# EAGLE library part PIC32MX534F064L-X_PT (library MINI-32)
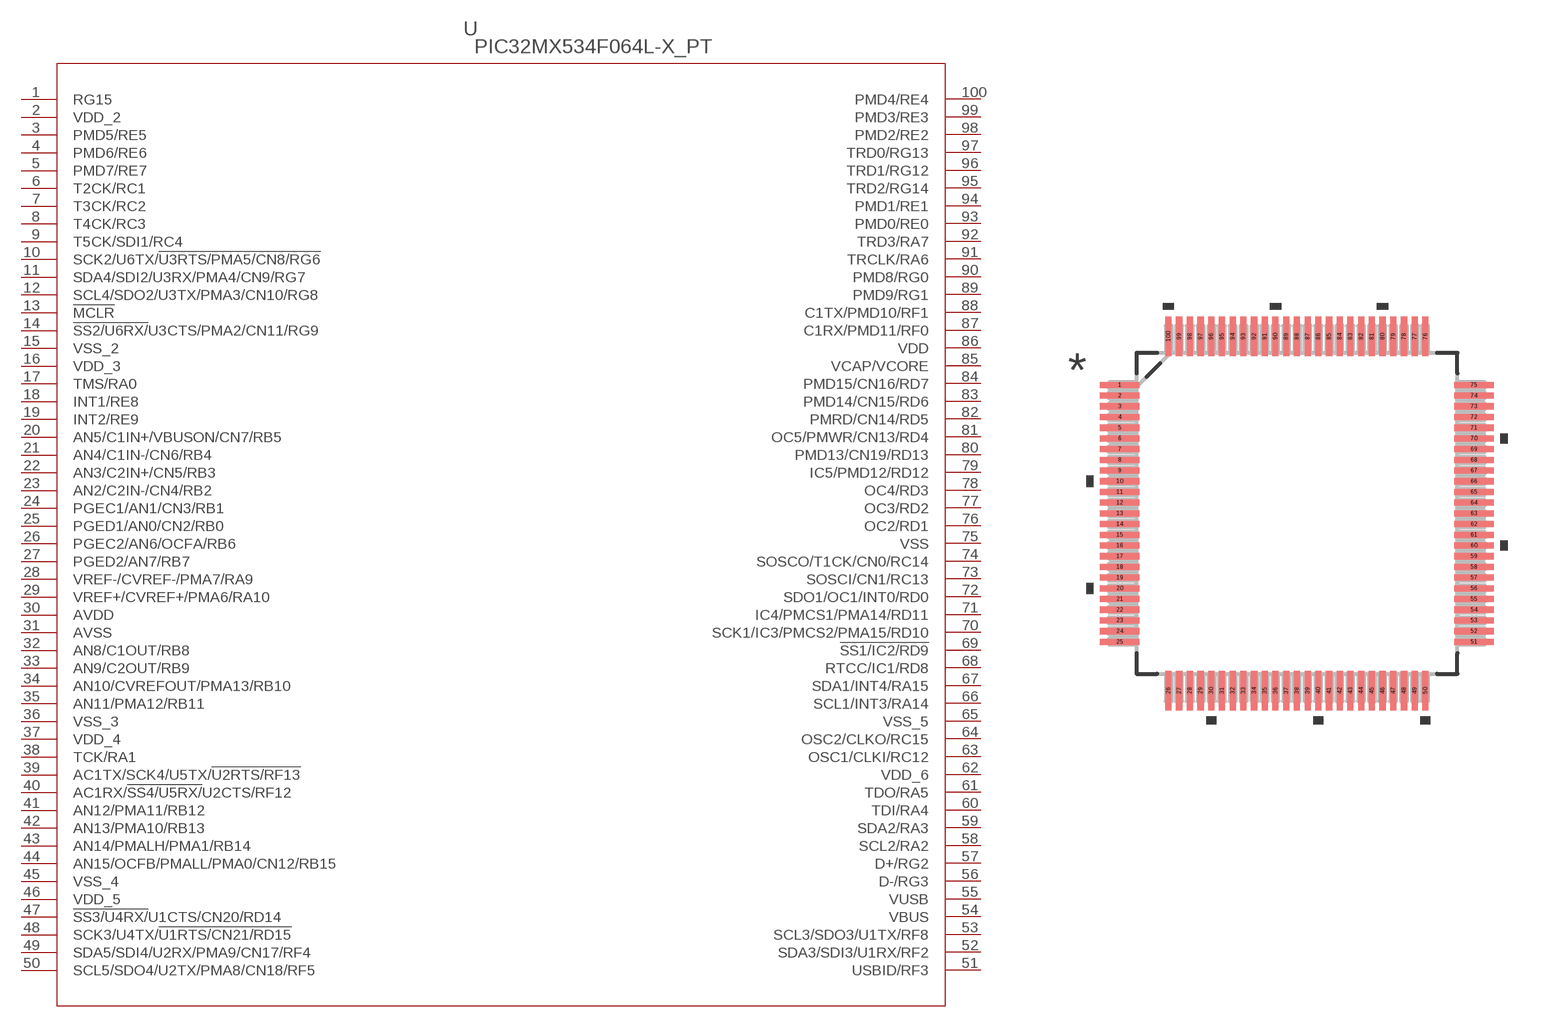
[diagram p1: symbol with the pads of TQFP100_12X12MC; footprint TQFP100_12X12MC]

Designator prefix -

## PIC32MX534F064L-X_PT  [TQFP100_12X12MC]
1  RG15
2  VDD_2  pwr
3  PMD5/RE5
4  PMD6/RE6
5  PMD7/RE7
6  T2CK/RC1
7  T3CK/RC2
8  T4CK/RC3
9  T5CK/SDI1/RC4
10  SCK2/U6TX/!U3RTS/PMA5/CN8/RG6
11  SDA4/SDI2/U3RX/PMA4/CN9/RG7
12  SCL4/SDO2/U3TX/PMA3/CN10/RG8
13  !MCLR  in
14  !SS2/U6RX/!U3CTS/PMA2/CN11/RG9
15  VSS_2  pwr
16  VDD_3  pwr
17  TMS/RA0
18  INT1/RE8
19  INT2/RE9
20  AN5/C1IN+/VBUSON/CN7/RB5
21  AN4/C1IN-/CN6/RB4
22  AN3/C2IN+/CN5/RB3
23  AN2/C2IN-/CN4/RB2
24  PGEC1/AN1/CN3/RB1
25  PGED1/AN0/CN2/RB0
26  PGEC2/AN6/OCFA/RB6
27  PGED2/AN7/RB7
28  VREF-/CVREF-/PMA7/RA9
29  VREF+/CVREF+/PMA6/RA10
30  AVDD  pwr
31  AVSS  pwr
32  AN8/C1OUT/RB8
33  AN9/C2OUT/RB9
34  AN10/CVREFOUT/PMA13/RB10
35  AN11/PMA12/RB11
36  VSS_3  pwr
37  VDD_4  pwr
38  TCK/RA1
39  AC1TX/SCK4/U5TX/!U2RTS/RF13
40  AC1RX/!SS4/U5RX/!U2CTS/RF12
41  AN12/PMA11/RB12
42  AN13/PMA10/RB13
43  AN14/PMALH/PMA1/RB14
44  AN15/OCFB/PMALL/PMA0/CN12/RB15
45  VSS_4  pwr
46  VDD_5  pwr
47  !SS3/U4RX/!U1CTS/CN20/RD14
48  SCK3/U4TX/!U1RTS/CN21/RD15
49  SDA5/SDI4/U2RX/PMA9/CN17/RF4
50  SCL5/SDO4/U2TX/PMA8/CN18/RF5
51  USBID/RF3
52  SDA3/SDI3/U1RX/RF2
53  SCL3/SDO3/U1TX/RF8
54  VBUS  pwr
55  VUSB  pwr
56  D-/RG3
57  D+/RG2
58  SCL2/RA2
59  SDA2/RA3
60  TDI/RA4
61  TDO/RA5
62  VDD_6  pwr
63  OSC1/CLKI/RC12
64  OSC2/CLKO/RC15
65  VSS_5  pwr
66  SCL1/INT3/RA14
67  SDA1/INT4/RA15
68  RTCC/IC1/RD8
69  !SS1/IC2/RD9
70  SCK1/IC3/PMCS2/PMA15/RD10
71  IC4/PMCS1/PMA14/RD11
72  SDO1/OC1/INT0/RD0
73  SOSCI/CN1/RC13
74  SOSCO/T1CK/CN0/RC14
75  VSS  pwr
76  OC2/RD1
77  OC3/RD2
78  OC4/RD3
79  IC5/PMD12/RD12
80  PMD13/CN19/RD13
81  OC5/PMWR/CN13/RD4
82  PMRD/CN14/RD5
83  PMD14/CN15/RD6
84  PMD15/CN16/RD7
85  VCAP/VCORE  pwr
86  VDD  pwr
87  C1RX/PMD11/RF0
88  C1TX/PMD10/RF1
89  PMD9/RG1
90  PMD8/RG0
91  TRCLK/RA6
92  TRD3/RA7
93  PMD0/RE0
94  PMD1/RE1
95  TRD2/RG14
96  TRD1/RG12
97  TRD0/RG13
98  PMD2/RE2
99  PMD3/RE3
100  PMD4/RE4

## Footprint TQFP100_12X12MC (pad centres in mm)
smd 1.473 x 0.229: 1 -6.617,4.8; 2 -6.617,4.4; 3 -6.617,4; 4 -6.617,3.6; 5 -6.617,3.2; 6 -6.617,2.8; 7 -6.617,2.4; 8 -6.617,2; 9 -6.617,1.6; 10 -6.617,1.2; 11 -6.617,0.8; 12 -6.617,0.4; 13 -6.617,0; 14 -6.617,-0.4; 15 -6.617,-0.8; 16 -6.617,-1.2; 17 -6.617,-1.6; 18 -6.617,-2; 19 -6.617,-2.4; 20 -6.617,-2.8; 21 -6.617,-3.2; 22 -6.617,-3.6; 23 -6.617,-4; 24 -6.617,-4.4; 25 -6.617,-4.8; 51 6.617,-4.8; 52 6.617,-4.4; 53 6.617,-4; 54 6.617,-3.6; 55 6.617,-3.2; 56 6.617,-2.8; 57 6.617,-2.4; 58 6.617,-2; 59 6.617,-1.6; 60 6.617,-1.2; 61 6.617,-0.8; 62 6.617,-0.4; 63 6.617,0; 64 6.617,0.4; 65 6.617,0.8; 66 6.617,1.2; 67 6.617,1.6; 68 6.617,2; 69 6.617,2.4; 70 6.617,2.8; 71 6.617,3.2; 72 6.617,3.6; 73 6.617,4; 74 6.617,4.4; 75 6.617,4.8
smd 0.229 x 1.473: 26 -4.8,-6.617; 27 -4.4,-6.617; 28 -4,-6.617; 29 -3.6,-6.617; 30 -3.2,-6.617; 31 -2.8,-6.617; 32 -2.4,-6.617; 33 -2,-6.617; 34 -1.6,-6.617; 35 -1.2,-6.617; 36 -0.8,-6.617; 37 -0.4,-6.617; 38 0,-6.617; 39 0.4,-6.617; 40 0.8,-6.617; 41 1.2,-6.617; 42 1.6,-6.617; 43 2,-6.617; 44 2.4,-6.617; 45 2.8,-6.617; 46 3.2,-6.617; 47 3.6,-6.617; 48 4,-6.617; 49 4.4,-6.617; 50 4.8,-6.617; 76 4.8,6.617; 77 4.4,6.617; 78 4,6.617; 79 3.6,6.617; 80 3.2,6.617; 81 2.8,6.617; 82 2.4,6.617; 83 2,6.617; 84 1.6,6.617; 85 1.2,6.617; 86 0.8,6.617; 87 0.4,6.617; 88 0,6.617; 89 -0.4,6.617; 90 -0.8,6.617; 91 -1.2,6.617; 92 -1.6,6.617; 93 -2,6.617; 94 -2.4,6.617; 95 -2.8,6.617; 96 -3.2,6.617; 97 -3.6,6.617; 98 -4,6.617; 99 -4.4,6.617; 100 -4.8,6.617